# Altium schematic symbol library PT15-21B.SchLib: 1 symbol
Pins are listed as number, name and electrical type; pins without a type are passive.

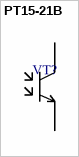
[diagram p0: symbol PT15-21B]

## PT15-21B
designator VT?
pins: 1, 2